# Altium schematic symbol library Interactive.SchLib: 6 symbols
Pins are listed as number, name and electrical type; pins without a type are passive.

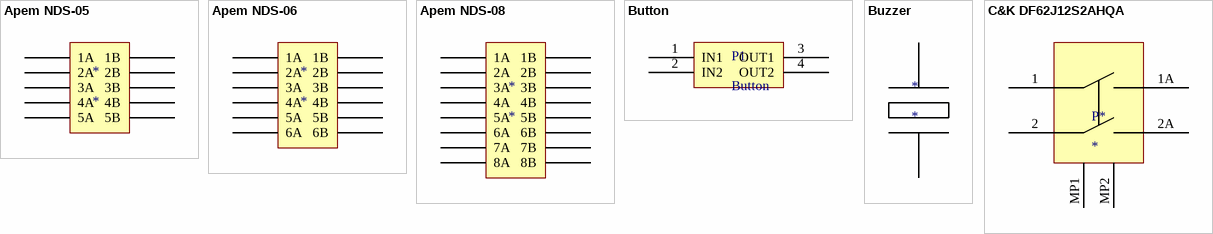
[diagram p0: symbols Apem NDS-05 to C&K DF62J12S2AHQA]

## Apem NDS-05
designator *
5 position DIP switch; RS article URL: https://de.rs-online.com/web/p/dil-und-sil-schalter/8772135/
footprint APEM NDS-05 (5 position DIP Switch)
pins: 1A, 1B, 2A, 2B, 3A, 3B, 4A, 4B, 5A, 5B

## Apem NDS-06
designator *
6 position DIP switch; RS article URL: https://de.rs-online.com/web/p/dil-und-sil-schalter/8772132/
footprint APEM NDS-06
pins: 1A, 1B, 2A, 2B, 3A, 3B, 4A, 4B, 5A, 5B, 6A, 6B

## Apem NDS-08
designator *
8 position DIP switch; RS article URL: https://de.rs-online.com/web/p/dil-und-sil-schalter/8772148/
footprint APEM NDS-08
pins: 1A, 1B, 2A, 2B, 3A, 3B, 4A, 4B, 5A, 5B, 6A, 6B, 7A, 7B, 8A, 8B

## Button
designator P1
footprint Button
pins: 1 IN1, 2 IN2, 3 OUT1, 4 OUT2

## Buzzer
designator *
footprint PKLCS1212E2000-R1
pins: 1 +, 2 -

## C&K DF62J12S2AHQA
designator P*
C&K DF62 series rocker switch; DigiKey URL: https://www.digikey.de/product-detail/de/c-k/DF62J12S2AHQA/CKN2062-ND/332745; Digikey Part Number: CKN2062-ND; Datasheet URL: https://www.ckswitches.com/media/1443/df.pdf
pins: 1, 1A, 2, 2A, MP1, MP2